# Altium footprint library SOD.PcbLib: 5 footprints
Each footprint in its own frame and in the unit in brackets; x right, y up, seen from the top. Pads: shape width x height; smd on the part's side, far side on the other; paste and mask are expansions set on the pad; w line width, h text height; cw(c..) or ccw(c..) is an arc to the next point about the centre after c.
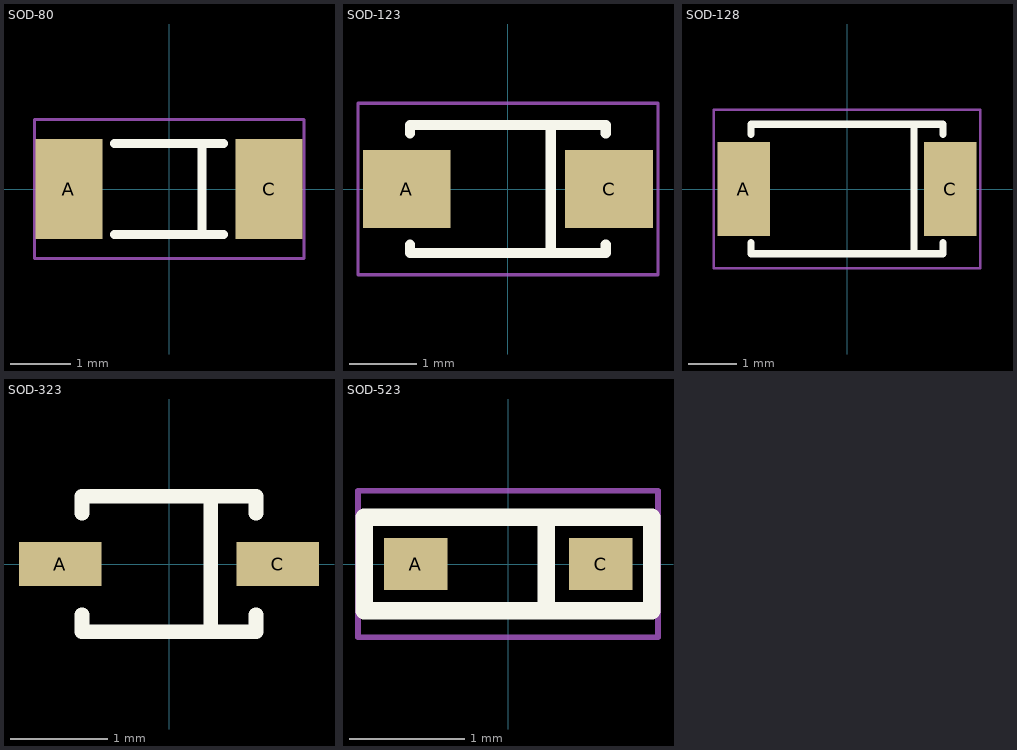
[diagram p0: the footprints below, top view; thin cyan lines are the x and y axes]

## SOD-80 [mm]
pads (2):
  rect 1.1x1.65 smd mask+0.05: A(-1.65,0) C(1.65,0)
Top Overlay:
  lines w0.15: -0.9,-0.75 0.9,-0.75 ; -0.9,0.75 0.9,0.75 ; 0.545,-0.75 0.545,0.75
Top Assembly:
  lines w0.05: -2.222,-1.143 2.226,-1.143 2.226,1.143 -2.222,1.143 -2.222,-1.143
3D body: height 1.02, standoff 0, extent -1.651,-0.889 1.651,0.889

## SOD-123 [mm] "SODFL, 2-Leads, Body 1,80x3,65mm, IPC Medium Density"
height 1.1
pads (2):
  rect 1.3x1.15 smd: A(-1.5,0) C(1.5,0)
Top Overlay:
  lines w0.152: -1.45,-0.825 -1.45,-0.95 1.45,-0.95 1.45,-0.825 ; -1.45,0.825 -1.45,0.95 1.45,0.95 1.45,0.825 ; 0.635,-0.95 0.635,0.95 0.889,0.95
Top Assembly:
  lines w0.05: -2.222,-1.27 2.226,-1.27 2.226,1.27 -2.222,1.27 -2.222,-1.27
3D body "SODFL365X110-2N.step": height 1.1, standoff 0, extent -1.825,-0.95 1.825,0.95

## SOD-128 [mm] "SODFL, 2-Leads, Body 2,50x4,70mm, IPC Medium Density"
height 1.1
pads (2):
  rect 1.1x1.95 smd: A(-2.15,0) C(2.15,0)
Top Overlay:
  lines w0.152: -2,-1.118 -2,-1.35 2,-1.35 2,-1.118 ; -2,1.143 -2,1.35 2,1.35 2,1.143 ; 1.397,-1.346 1.397,1.35 1.727,1.35
Top Assembly:
  lines w0.05: -2.773,-1.651 -2.773,1.651 2.775,1.651 2.775,-1.651 -2.773,-1.651
3D body "SODFL470X110-2N.step": height 1.1, standoff 0, extent -2.35,-1.35 2.35,1.35

## SOD-323 [mm]
height 1.1
pads (2):
  rect 0.85x0.45 smd: A(-1.125,0) C(1.125,0)
Top Overlay:
  lines w0.152: -0.9,-0.525 -0.9,-0.7 0.9,-0.7 0.9,-0.525 ; -0.9,0.525 -0.9,0.7 0.9,0.7 0.9,0.525 ; 0.432,-0.7 0.432,0.7 0.635,0.7
3D body "SOD-323F.STEP": height 0.79, standoff -0.08, extent -1.4,-0.675 1.3,0.675

## SOD-523 [mm] "SODFL, 2-Leads, Body 0,80x1,60mm, IPC Medium Density"
height 0.77
pads (2):
  rect 0.55x0.45 smd: A(-0.8,0) C(0.8,0)
Top Overlay:
  lines w0.152: 0.33,-0.381 0.33,0.406 0.432,0.406 ; 0.813,0.406 1.245,0.406 1.245,-0.406 -1.245,-0.406 -1.245,0.406 0.914,0.406
Top Assembly:
  lines w0.05: -1.3,-0.635 -1.3,0.635 1.298,0.635 1.298,-0.635 -1.3,-0.635
3D body "SODFL160X77-2N.step": height 0.77, standoff 0, extent -0.8,-0.4 0.8,0.4